# Altium footprint library CommonPcb.PcbLib: 194 footprints (part 9 of 13)
Each footprint in its own frame and in the unit in brackets; x right, y up, seen from the top. Pads: shape width x height; smd on the part's side, far side on the other; paste and mask are expansions set on the pad; w line width, h text height; cw(c..) or ccw(c..) is an arc to the next point about the centre after c.
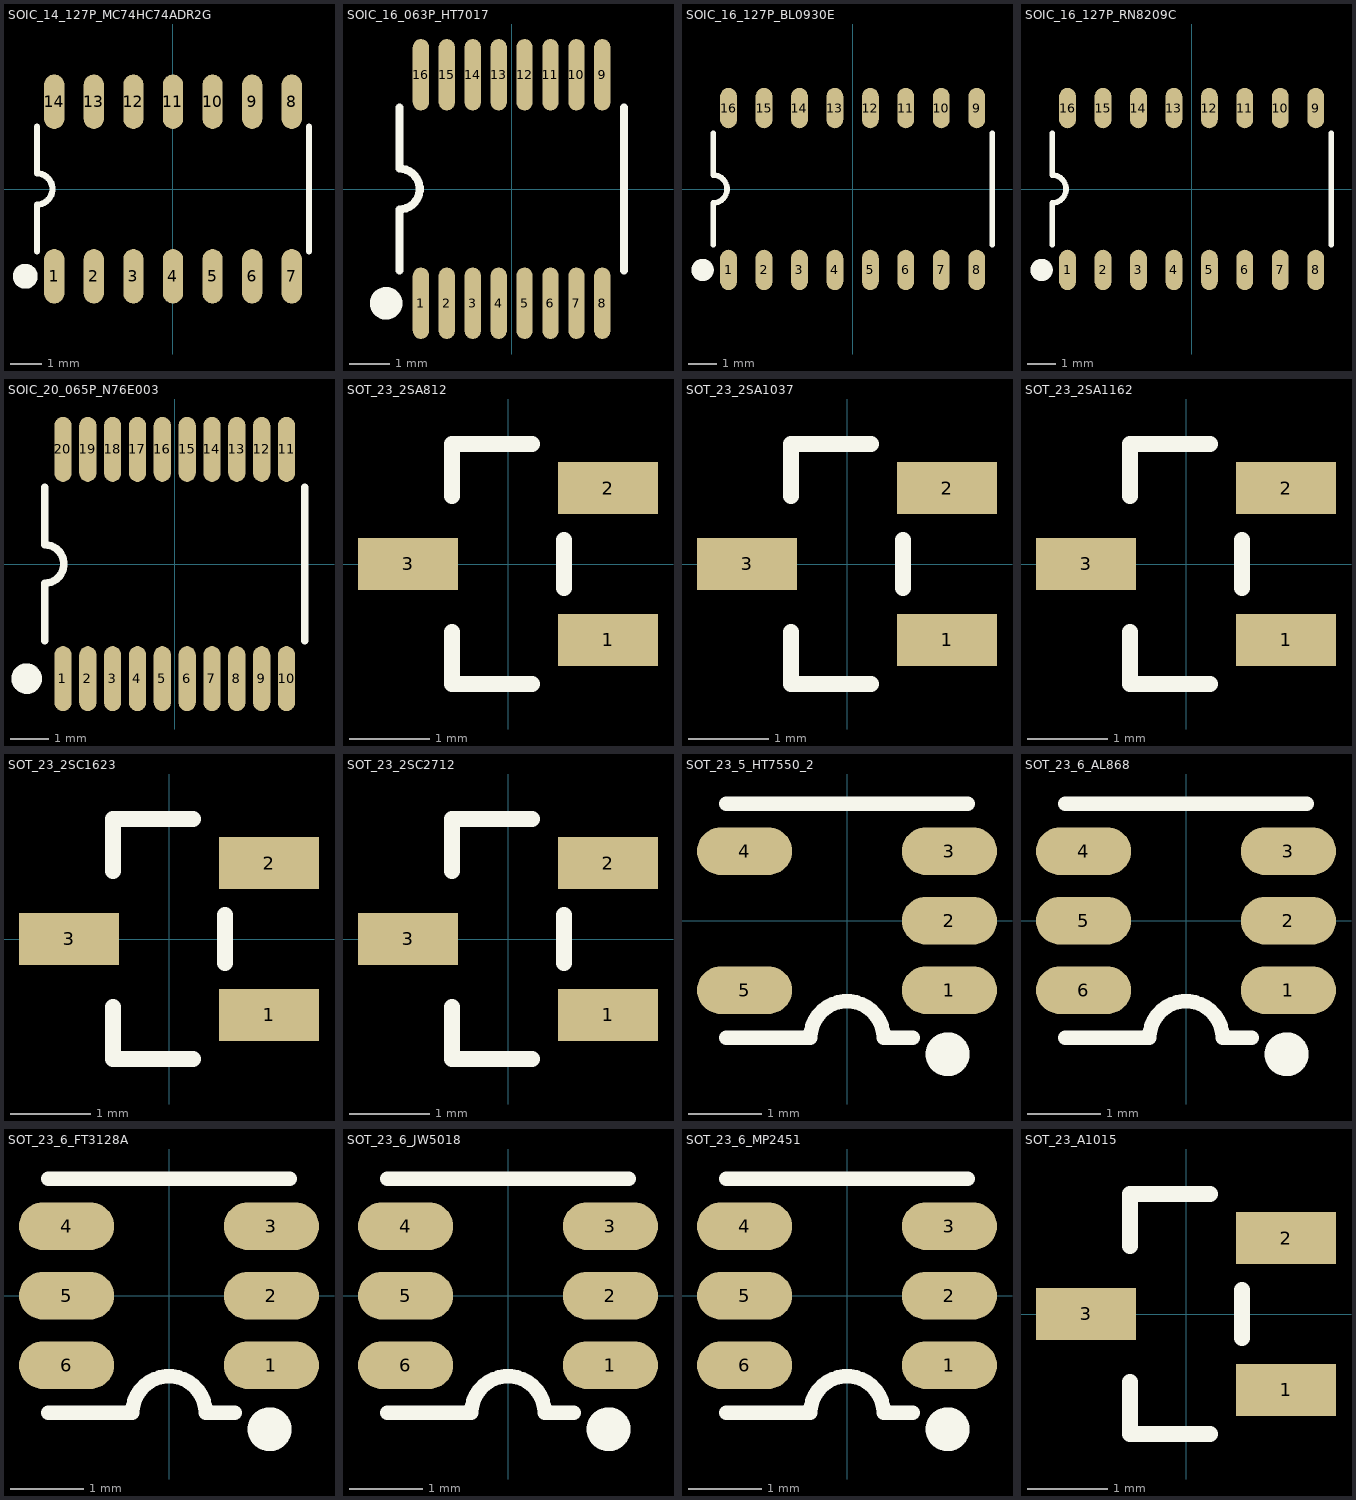
[diagram p8: the footprints below, top view; thin cyan lines are the x and y axes]

## SOIC_14_127P_MC74HC74ADR2G [mm] "SOIC_14_127P"
pads (14):
  oval 0.65x1.75 smd mask+0.1: 1(-3.81,-2.8) 2(-2.54,-2.8) 3(-1.27,-2.8) 4(0,-2.8) 5(1.27,-2.8) 6(2.54,-2.8) 7(3.81,-2.8) 8(3.81,2.8) 9(2.54,2.8) 10(1.27,2.8) 11(0,2.8) 12(-1.27,2.8) 13(-2.54,2.8) 14(-3.81,2.8)
Top Overlay:
  circle w0.4: c-4.74,-2.8 r0.2
  lines w0.2: -4.365,-2 -4.365,-0.5 ccw(c-4.365,0) -4.365,0.5 -4.365,2 ; 4.365,-2 4.365,2
3D body: height 0, standoff 0, extent -4.365,-4 4.365,4

## SOIC_16_063P_HT7017 [mm] "SOIC_16_063P"
pads (16):
  oval 0.4x1.75 smd mask+0.05: 1(-2.222,-2.8) 2(-1.587,-2.8) 3(-0.953,-2.8) 4(-0.318,-2.8) 5(0.318,-2.8) 6(0.953,-2.8) 7(1.587,-2.8) 8(2.222,-2.8) 9(2.222,2.8) 10(1.587,2.8) 11(0.953,2.8) 12(0.318,2.8) 13(-0.318,2.8) 14(-0.953,2.8) 15(-1.587,2.8) 16(-2.222,2.8)
Top Overlay:
  circle w0.4: c-3.075,-2.8 r0.2
  lines w0.2: -2.75,-2 -2.75,-0.5 ccw(c-2.75,0) -2.75,0.5 -2.75,2 ; 2.75,-2 2.75,2
3D body: height 0, standoff 0, extent -2.75,-4 2.75,4

## SOIC_16_127P_BL0930E [mm] "SOIC_16_127P"
pads (16):
  oval 0.6x1.45 smd mask+0.1: 1(-4.445,-2.9) 2(-3.175,-2.9) 3(-1.905,-2.9) 4(-0.635,-2.9) 5(0.635,-2.9) 6(1.905,-2.9) 7(3.175,-2.9) 8(4.445,-2.9) 9(4.445,2.9) 10(3.175,2.9) 11(1.905,2.9) 12(0.635,2.9) 13(-0.635,2.9) 14(-1.905,2.9) 15(-3.175,2.9) 16(-4.445,2.9)
Top Overlay:
  circle w0.4: c-5.375,-2.9 r0.2
  lines w0.2: -5,-2 -5,-0.5 ccw(c-5,0) -5,0.5 -5,2 ; 5,-2 5,2
3D body: height 0, standoff 0, extent -5,-4 5,4

## SOIC_16_127P_RN8209C [mm] "SOIC_16_127P"
pads (16):
  oval 0.6x1.45 smd mask+0.1: 1(-4.445,-2.9) 2(-3.175,-2.9) 3(-1.905,-2.9) 4(-0.635,-2.9) 5(0.635,-2.9) 6(1.905,-2.9) 7(3.175,-2.9) 8(4.445,-2.9) 9(4.445,2.9) 10(3.175,2.9) 11(1.905,2.9) 12(0.635,2.9) 13(-0.635,2.9) 14(-1.905,2.9) 15(-3.175,2.9) 16(-4.445,2.9)
Top Overlay:
  circle w0.4: c-5.375,-2.9 r0.2
  lines w0.2: -5,-2 -5,-0.5 ccw(c-5,0) -5,0.5 -5,2 ; 5,-2 5,2
3D body: height 0, standoff 0, extent -5,-4 5,4

## SOIC_20_065P_N76E003 [mm] "SOIC_20_065P"
pads (20):
  oval 0.45x1.7 smd mask+0.05: 1(-2.925,-3) 2(-2.275,-3) 3(-1.625,-3) 4(-0.975,-3) 5(-0.325,-3) 6(0.325,-3) 7(0.975,-3) 8(1.625,-3) 9(2.275,-3) 10(2.925,-3) 11(2.925,3) 12(2.275,3) 13(1.625,3) 14(0.975,3) 15(0.325,3) 16(-0.325,3) 17(-0.975,3) 18(-1.625,3) 19(-2.275,3) 20(-2.925,3)
Top Overlay:
  circle w0.4: c-3.875,-3 r0.2
  lines w0.2: -3.4,-2 -3.4,-0.5 ccw(c-3.4,0) -3.4,0.5 -3.4,2 ; 3.4,-2 3.4,2
3D body: height 0, standoff 0, extent -3.4,-4.1 3.4,4.1

## SOT_23_2SA812 [mm] "SOT_23"
pads (3):
  rect 1.25x0.65 smd mask+0.1: 1(1.25,-0.95) 2(1.25,0.95) 3(-1.25,0)
Top Overlay:
  lines w0.2: -0.7,-0.85 -0.7,-1.5 0.3,-1.5 ; -0.7,0.85 -0.7,1.5 0.3,1.5 ; 0.7,-0.3 0.7,0.3
3D body: height 0, standoff 0, extent -2,-1.5 2,1.501

## SOT_23_2SA1037 [mm] "SOT_23"
pads (3):
  rect 1.25x0.65 smd mask+0.1: 1(1.25,-0.95) 2(1.25,0.95) 3(-1.25,0)
Top Overlay:
  lines w0.2: -0.7,-0.85 -0.7,-1.5 0.3,-1.5 ; -0.7,0.85 -0.7,1.5 0.3,1.5 ; 0.7,-0.3 0.7,0.3
3D body: height 0, standoff 0, extent -2,-1.5 2,1.501

## SOT_23_2SA1162 [mm] "SOT_23"
pads (3):
  rect 1.25x0.65 smd mask+0.1: 1(1.25,-0.95) 2(1.25,0.95) 3(-1.25,0)
Top Overlay:
  lines w0.2: -0.7,-0.85 -0.7,-1.5 0.3,-1.5 ; -0.7,0.85 -0.7,1.5 0.3,1.5 ; 0.7,-0.3 0.7,0.3
3D body: height 0, standoff 0, extent -2,-1.5 2,1.501

## SOT_23_2SC1623 [mm] "SOT_23"
pads (3):
  rect 1.25x0.65 smd mask+0.1: 1(1.25,-0.95) 2(1.25,0.95) 3(-1.25,0)
Top Overlay:
  lines w0.2: -0.7,-0.85 -0.7,-1.5 0.3,-1.5 ; -0.7,0.85 -0.7,1.5 0.3,1.5 ; 0.7,-0.3 0.7,0.3
3D body: height 0, standoff 0, extent -2,-1.5 2,1.501

## SOT_23_2SC2712 [mm] "SOT_23"
pads (3):
  rect 1.25x0.65 smd mask+0.1: 1(1.25,-0.95) 2(1.25,0.95) 3(-1.25,0)
Top Overlay:
  lines w0.2: -0.7,-0.85 -0.7,-1.5 0.3,-1.5 ; -0.7,0.85 -0.7,1.5 0.3,1.5 ; 0.7,-0.3 0.7,0.3
3D body: height 0, standoff 0, extent -2,-1.5 2,1.501

## SOT_23_5_HT7550_2 [mm] "SOT_23_5"
pads (5):
  oval 1.3x0.65 smd mask+0.1: 1(1.4,-0.95) 2(1.4,0) 3(1.4,0.95) 4(-1.4,0.95) 5(-1.4,-0.95)
Top Overlay:
  circle w0.3: c1.375,-1.825 r0.15
  lines w0.2: -1.65,-1.6 -0.5,-1.6 cw(c0,-1.6) 0.5,-1.6 0.9,-1.6 ; -1.65,1.6 1.65,1.6
3D body: height 0, standoff 0, extent -2.25,-1.6 2.25,1.6

## SOT_23_6_AL868 [mm] "SOT_23_6"
pads (6):
  oval 1.3x0.65 smd mask+0.1: 1(1.4,-0.95) 2(1.4,0) 3(1.4,0.95) 4(-1.4,0.95) 5(-1.4,0) 6(-1.4,-0.95)
Top Overlay:
  circle w0.3: c1.375,-1.825 r0.15
  lines w0.2: -1.65,-1.6 -0.5,-1.6 cw(c0,-1.6) 0.5,-1.6 0.9,-1.6 ; -1.65,1.6 1.65,1.6
3D body: height 0, standoff 0, extent -2.25,-1.6 2.25,1.6

## SOT_23_6_FT3128A [mm] "SOT_23_6"
pads (6):
  oval 1.3x0.65 smd mask+0.1: 1(1.4,-0.95) 2(1.4,0) 3(1.4,0.95) 4(-1.4,0.95) 5(-1.4,0) 6(-1.4,-0.95)
Top Overlay:
  circle w0.3: c1.375,-1.825 r0.15
  lines w0.2: -1.65,-1.6 -0.5,-1.6 cw(c0,-1.6) 0.5,-1.6 0.9,-1.6 ; -1.65,1.6 1.65,1.6
3D body: height 0, standoff 0, extent -2.25,-1.6 2.25,1.6

## SOT_23_6_JW5018 [mm] "SOT_23_6"
pads (6):
  oval 1.3x0.65 smd mask+0.1: 1(1.4,-0.95) 2(1.4,0) 3(1.4,0.95) 4(-1.4,0.95) 5(-1.4,0) 6(-1.4,-0.95)
Top Overlay:
  circle w0.3: c1.375,-1.825 r0.15
  lines w0.2: -1.65,-1.6 -0.5,-1.6 cw(c0,-1.6) 0.5,-1.6 0.9,-1.6 ; -1.65,1.6 1.65,1.6
3D body: height 0, standoff 0, extent -2.25,-1.6 2.25,1.6

## SOT_23_6_MP2451 [mm] "SOT_23_6"
pads (6):
  oval 1.3x0.65 smd mask+0.1: 1(1.4,-0.95) 2(1.4,0) 3(1.4,0.95) 4(-1.4,0.95) 5(-1.4,0) 6(-1.4,-0.95)
Top Overlay:
  circle w0.3: c1.375,-1.825 r0.15
  lines w0.2: -1.65,-1.6 -0.5,-1.6 cw(c0,-1.6) 0.5,-1.6 0.9,-1.6 ; -1.65,1.6 1.65,1.6
3D body: height 0, standoff 0, extent -2.25,-1.6 2.25,1.6

## SOT_23_A1015 [mm] "SOT_23"
pads (3):
  rect 1.25x0.65 smd mask+0.1: 1(1.25,-0.95) 2(1.25,0.95) 3(-1.25,0)
Top Overlay:
  lines w0.2: -0.7,-0.85 -0.7,-1.5 0.3,-1.5 ; -0.7,0.85 -0.7,1.5 0.3,1.5 ; 0.7,-0.3 0.7,0.3
3D body: height 0, standoff 0, extent -2,-1.5 2,1.501